# Altium schematic symbol library HDC1080DMBR.SchLib: 1 symbol
Pins are listed as number, name and electrical type; pins without a type are passive.

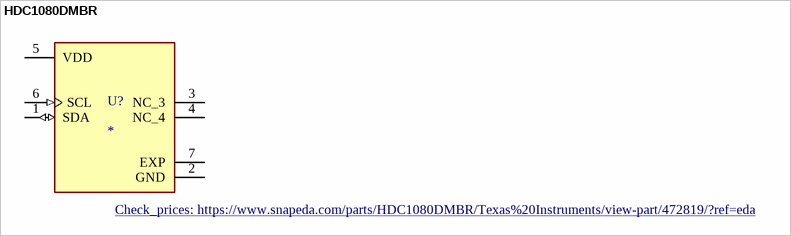
[diagram p0: symbol HDC1080DMBR]

## HDC1080DMBR
designator U?
&plusmn;2% low-power digital humidity and temperature sensor 6-WSON -40 to 125; MF: Texas Instruments; MP: HDC1080DMBR; Price: None; Availability: Unavailable; SnapEDA_Link: https://www.snapeda.com/parts/HDC1080DMBR/Texas%20Instruments/view-part/472819/?ref=snap; Value: *; Package: WSON-6 Texas Instruments; Purchase-URL: https://pricing.snapeda.com/search/part/HDC1080DMBR/?ref=eda; Check_prices: https://www.snapeda.com/parts/HDC1080DMBR/Texas%20Instruments/view-part/472819/?ref=eda
footprint SON100P300X300X80-7N
pins: 1 SDA (io), 2 GND (power), 3 NC_3, 4 NC_4, 5 VDD (power), 6 SCL (in), 7 EXP